# Altium footprint library led_0603.PcbLib: 1 footprints
Each footprint in its own frame and in the unit in brackets; x right, y up, seen from the top. Pads: shape width x height; smd on the part's side, far side on the other; paste and mask are expansions set on the pad; w line width, h text height; cw(c..) or ccw(c..) is an arc to the next point about the centre after c.
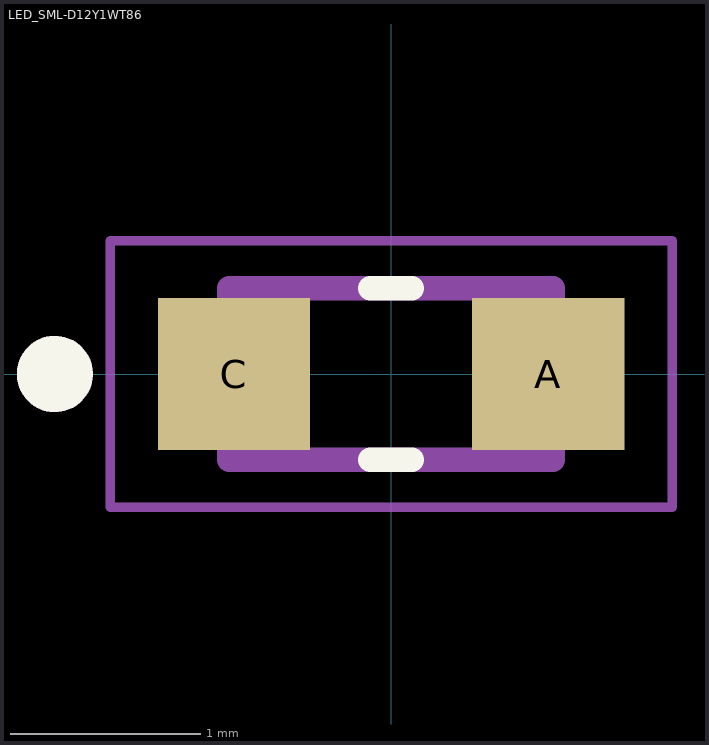
[diagram p0: the footprint, top view; thin cyan lines are the x and y axes]

## LED_SML-D12Y1WT86 [mm]
pads (2):
  rect 0.8x0.8 smd: A(0.825,0) C(-0.825,0)
Top Overlay:
  circle w0.2: c-1.765,0 r0.1
  lines w0.127: -0.11,-0.45 0.11,-0.45 ; -0.11,0.45 0.11,0.45
Mechanical 13:
  circle w0.2: c-1.765,0 r0.1
  lines w0.127: -0.85,-0.45 -0.85,0.45 0.85,0.45 0.85,-0.45 -0.85,-0.45
Mechanical 15:
  lines w0.05: -1.475,-0.7 -1.475,0.7 1.475,0.7 1.475,-0.7 -1.475,-0.7
3D body "SML-D12U1WT86.STEP": height 0.55, standoff 0, extent -0.8,-0.4 0.8,0.4